# EAGLE library part 621X3221921 (library Board-to-Board (rev18a))
WR-PHD 2.00mm Dual SMT Pin Header, 32 Pins=>Code :WR-PHD_SMD_2,00mm_zweireihig621x3221921(packageing:x = 0: Tube x = 3: Tape & Reel with Cap) <http://katalog.we-online.de/media/images/eican/WR-PHD_SMD_2,00mm_zweireihig62103221921.jpg> 6210xx21921 Details see: http://katalog.we-online.de/en/em/621_0xx_219_21 6213xx21921 Details see: http://katalog.we-online.de/en/em/PHD_2_00_SMT_DUAL_PIN_HEADER_REEL_6213XX21921 2014 (C) Würth Elektronik
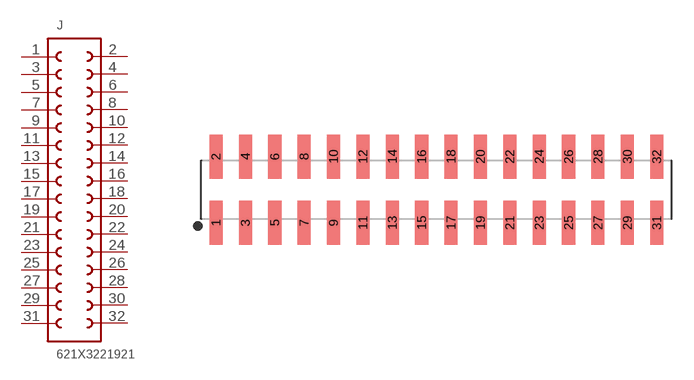
[diagram p238: symbol with the pads of 621X3221921; footprint 621X3221921]

Designator prefix J

## 621X3221921  [621X3221921]
1  1  pas
2  32  pas
3  2  pas
4  31  pas
5  3  pas
6  30  pas
7  4  pas
8  29  pas
9  5  pas
10  28  pas
11  6  pas
12  27  pas
13  7  pas
14  26  pas
15  8  pas
16  25  pas
17  9  pas
18  24  pas
19  10  pas
20  23  pas
21  11  pas
22  22  pas
23  12  pas
24  21  pas
25  13  pas
26  20  pas
27  14  pas
28  19  pas
29  15  pas
30  18  pas
31  16  pas
32  17  pas

## Footprint 621X3221921 (pad centres in mm)
WR-PHD 2.00mm Dual SMT Pin Header, 32 Pins
smd 0.89 x 3: 1 -15,-2.25; 2 -15,2.25; 3 -13,-2.25; 4 -13,2.25; 5 -11,-2.25; 6 -11,2.25; 7 -9,-2.25; 8 -9,2.25; 9 -7,-2.25; 10 -7,2.25; 11 -5,-2.25; 12 -5,2.25; 13 -3,-2.25; 14 -3,2.25; 15 -1,-2.25; 16 -1,2.25; 17 1,-2.25; 18 1,2.25; 19 3,-2.25; 20 3,2.25; 21 5,-2.25; 22 5,2.25; 23 7,-2.25; 24 7,2.25; 25 9,-2.25; 26 9,2.25; 27 11,-2.25; 28 11,2.25; 29 13,-2.25; 30 13,2.25; 31 15,-2.25; 32 15,2.25